# Altium schematic symbol library SP8M3HZG.Schlib: 1 symbol
Pins are listed as number, name and electrical type; pins without a type are passive.

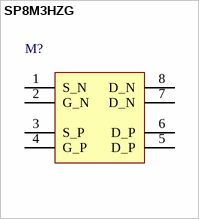
[diagram p0: symbol SP8M3HZG]

## SP8M3HZG
designator M?
30V 5A N-Channel + P-Channel
pins: 1 S_N, 2 G_N, 3 S_P, 4 G_P, 5 D_P, 6 D_P, 7 D_N, 8 D_N